# Altium footprint library CAPC160X80X90L30N.PcbLib: 1 footprints
Each footprint in its own frame and in the unit in brackets; x right, y up, seen from the top. Pads: shape width x height; smd on the part's side, far side on the other; paste and mask are expansions set on the pad; w line width, h text height; cw(c..) or ccw(c..) is an arc to the next point about the centre after c.
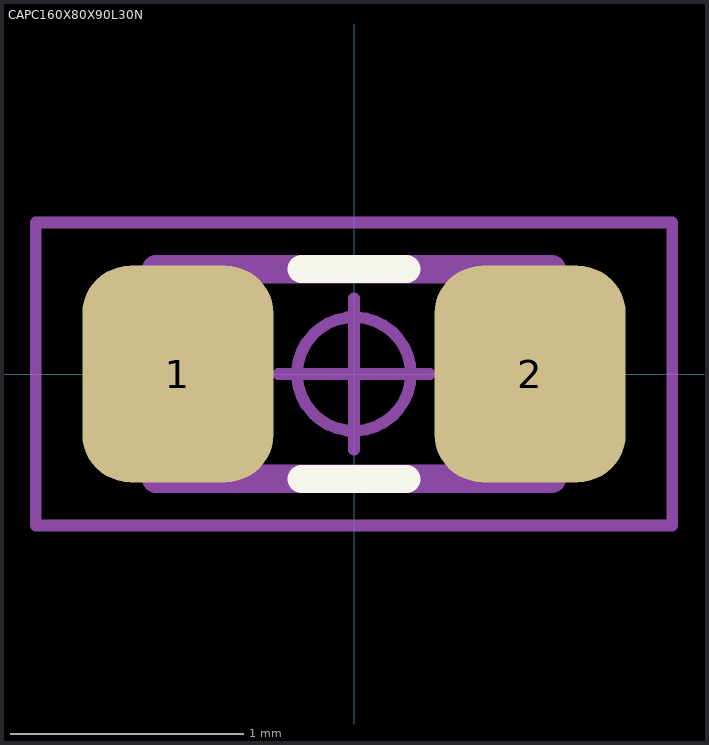
[diagram p0: the footprint, top view; thin cyan lines are the x and y axes]

## CAPC160X80X90L30N [mm] "Capacitor, Non-polarized, Chip; 1.60 mm L X 0.80 mm W X 0.90 mm H Body"
height 0.9
pads (2):
  rrect50% 0.82x0.929 smd: 1(-0.755,0) 2(0.755,0)
Top Overlay:
  lines w0.12: -0.225,-0.45 0.225,-0.45 ; -0.225,0.45 0.225,0.45
Mechanical 3:
  lines w0.12: -0.85,-0.45 -0.85,0.45 0.85,0.45 0.85,-0.45 -0.85,-0.45
Mechanical 5:
  lines w0.025: -0.8,-0.4 -0.5,-0.4 -0.5,0.4 -0.8,0.4 ; -0.8,-0.4 -0.8,0.4 ; -0.8,-0.4 -0.8,0.4 ; -0.8,-0.4 0.8,-0.4 ; -0.8,0.4 0.8,0.4 ; 0.8,-0.4 0.8,0.4 ; 0.8,-0.4 0.5,-0.4 0.5,0.4 0.8,0.4 ; 0.8,-0.4 0.8,0.4
Mechanical 7:
  circle w0.05: c0,0 r0.244
  lines w0.05: -0.325,0 0.325,0 ; 0,-0.325 0,0.325 ; -1.365,-0.65 -1.365,0.65 1.365,0.65 1.365,-0.65 -1.365,-0.65
Mechanical 9:
  text "'.Designator'" at -5.817,-0.398 h1.02
3D body "CAPC160X80X90L30.STEP": height 0.9, standoff 0, extent -0.8,-0.4 0.8,0.4
3D body: height 23.4, standoff -5, extent -1.365,-0.65 1.365,0.65